# Altium footprint library PCB - CONNECTOR - SULLINS - SULLINS NRPN091PAEN-RC.PCBLIB: 1 footprints
Each footprint in its own frame and in the unit in brackets; x right, y up, seen from the top. Pads: shape width x height; smd on the part's side, far side on the other; paste and mask are expansions set on the pad; w line width, h text height; cw(c..) or ccw(c..) is an arc to the next point about the centre after c.
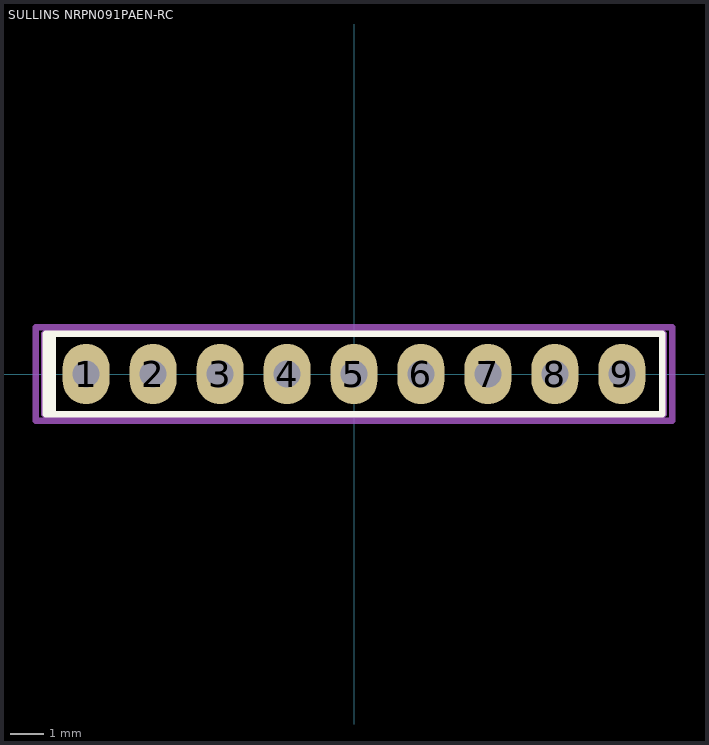
[diagram p0: the footprint, top view; thin cyan lines are the x and y axes]

## SULLINS NRPN091PAEN-RC [mm]
height 5.6
pads (9):
  oval 1.4x1.8 hole 0.8: 1(-8,0) 2(-6,0) 3(-4,0) 4(-2,0) 5(0,0) 6(2,0) 7(4,0) 8(6,0) 9(8,0)
Top Overlay:
  lines w0.2: -9,-1.2 -9,1.2 ; -9.2,-1.2 9.2,-1.2 9.2,1.2 -9.2,1.2 -9.2,-1.2
Mechanical 1:
  lines w0.2: 9.25,-1.2 9.25,1.2 ; 9.25,-1.2 -9.25,-1.2 -9.25,1.2 9.25,1.2
Mechanical 15:
  lines w0.2: -0.5,0 0.5,0 ; 0,-0.5 0,0.5 ; -9.5,-1.4 9.5,-1.4 9.5,1.4 -9.5,1.4 -9.5,-1.4
3D body "Sullins NRPN091PAEN-RC.step": height 5.6, standoff -2.8, extent -9,-1 9,1